# Altium schematic symbol library AMS1117-3.3.SchLib: 1 symbol
Pins are listed as number, name and electrical type; pins without a type are passive.

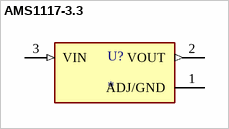
[diagram p0: symbol AMS1117-3.3]

## AMS1117-3.3
designator U?
Linear Voltage Regulator IC Positive Fixed 1 Output 1A SOT-223-3L; MF: UMW; MP: AMS1117-3.3; SnapEDA_Link: https://www.snapeda.com/parts/AMS1117-3.3/UMW/view-part/?ref=snap; Package: SOT-223-3L UMW; Value: *; Check_prices: https://www.snapeda.com/parts/AMS1117-3.3/UMW/view-part/?ref=eda
footprint SOT229P700X180-4N
pins: 1 ADJ/GND (power), 2 VOUT (out), 3 VIN (in)